# Altium schematic symbol library 43650-0200.SchLib: 1 symbol
Pins are listed as number, name and electrical type; pins without a type are passive.

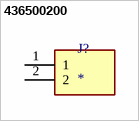
[diagram p0: symbol 436500200]

## 436500200
designator J?
MF: {'manufacturer': u'Molex'}; MP: 436500200; Availability: Unavailable; Price: None; Package: None; Value: *
footprint MOLEX_436500200
pins: 1, 2